# EAGLE library part M25HPS (library 1A-meinLib)
SUB-D
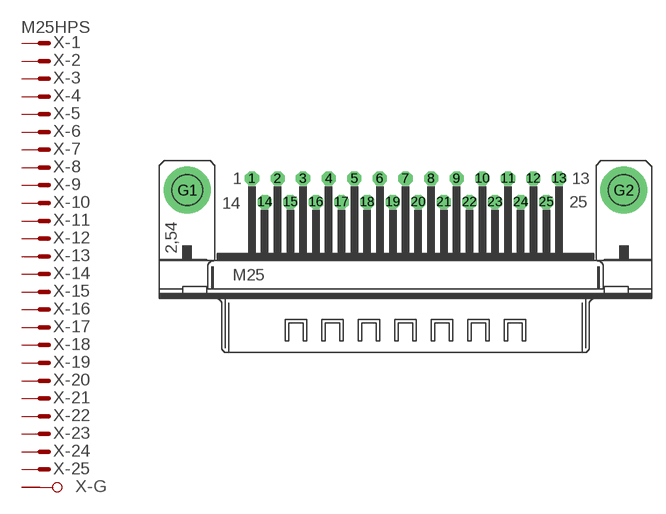
[diagram p311: symbol with the pads of M25HP; footprint M25HP]

Designator prefix X; gates -2=M-2 -3=M-2 -4=M-2 -5=M-2 -6=M-2 -7=M-2 -8=M-2 -9=M-2 -10=M-2 -11=M-2 -12=M-2 -13=M-2 -14=M-2 -15=M-2 -16=M-2 -17=M-2 -18=M-2 -19=M-2 -20=M-2 -21=M-2 -22=M-2 -23=M-2 -24=M-2 -25=M-2 -G=GND-1 -1=MV

## M25HPS  [M25HP]
1  -1:M  pas
2  -2:M  pas
3  -3:M  pas
4  -4:M  pas
5  -5:M  pas
6  -6:M  pas
7  -7:M  pas
8  -8:M  pas
9  -9:M  pas
10  -10:M  pas
11  -11:M  pas
12  -12:M  pas
13  -13:M  pas
14  -14:M  pas
15  -15:M  pas
16  -16:M  pas
17  -17:M  pas
18  -18:M  pas
19  -19:M  pas
20  -20:M  pas
21  -21:M  pas
22  -22:M  pas
23  -23:M  pas
24  -24:M  pas
25  -25:M  pas
G1  -G:G1  pas
G2  -G:G2  pas

## Footprint M25HP (pad centres in mm)
SUB-D
drill 1.016 octagon: 1 -16.561,1.27; 2 -13.792,1.27; 3 -11.049,1.27; 4 -8.28,1.27; 5 -5.512,1.27; 6 -2.769,1.27; 7 0,1.27; 8 2.769,1.27; 9 5.512,1.27; 10 8.28,1.27; 11 11.049,1.27; 12 13.792,1.27; 13 16.561,1.27; 14 -15.189,-1.27; 15 -12.421,-1.27; 16 -9.652,-1.27; 17 -6.909,-1.27; 18 -4.14,-1.27; 19 -1.372,-1.27; 20 1.372,-1.27; 21 4.14,-1.27; 22 6.909,-1.27; 23 9.652,-1.27; 24 12.421,-1.27; 25 15.189,-1.27
drill 3.302 pad 5.08 round: G1 -23.52,0; G2 23.52,0